# Altium footprint library bridgerecitief.PcbLib: 1 footprints
Each footprint in its own frame and in the unit in brackets; x right, y up, seen from the top. Pads: shape width x height; smd on the part's side, far side on the other; paste and mask are expansions set on the pad; w line width, h text height; cw(c..) or ccw(c..) is an arc to the next point about the centre after c.
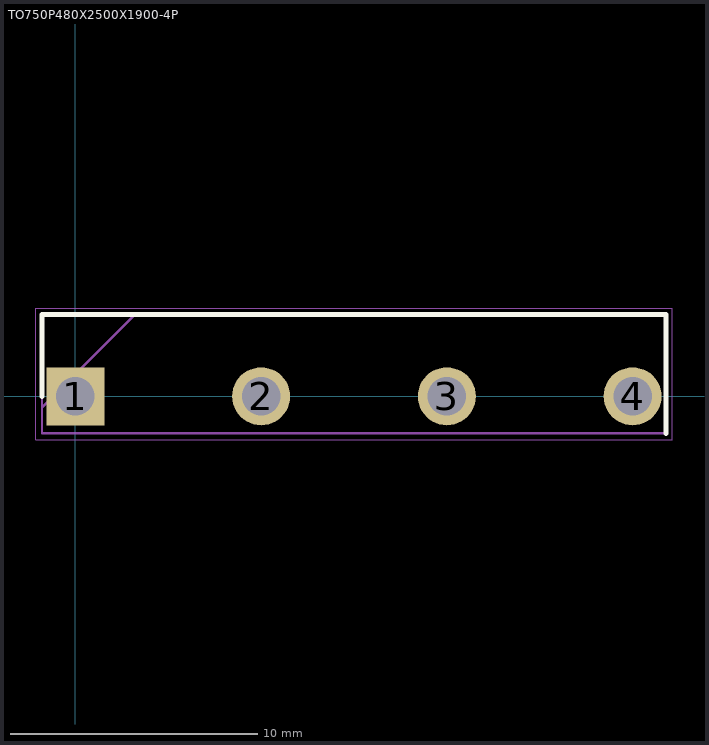
[diagram p0: the footprint, top view; thin cyan lines are the x and y axes]

## TO750P480X2500X1900-4P [mm]
pads (4):
  rect 2.34x2.34 hole 1.56: 1(0,0)
  round 2.34 hole 1.56: 2(7.5,0) 3(15,0) 4(22.5,0)
Top Overlay:
  lines w0.2: -1.35,0 -1.35,3.3 23.85,3.3 23.85,-1.5
Mechanical 13:
  lines w0.1: -1.35,-0.45 2.4,3.3 ; -1.35,-1.5 -1.35,3.3 23.85,3.3 23.85,-1.5 -1.35,-1.5
Mechanical 15:
  lines w0.05: -1.6,-1.75 -1.6,3.55 24.1,3.55 24.1,-1.75 -1.6,-1.75
3D body "KBJ608G.stp": height 18.5, standoff -30, extent -1.25,-1.5 23.75,3.3